# Altium footprint library T5_Turn_Down_For_Watt.PcbLib: 38 footprints (part 1 of 3)
Each footprint in its own frame and in the unit in brackets; x right, y up, seen from the top. Pads: shape width x height; smd on the part's side, far side on the other; paste and mask are expansions set on the pad; w line width, h text height; cw(c..) or ccw(c..) is an arc to the next point about the centre after c.
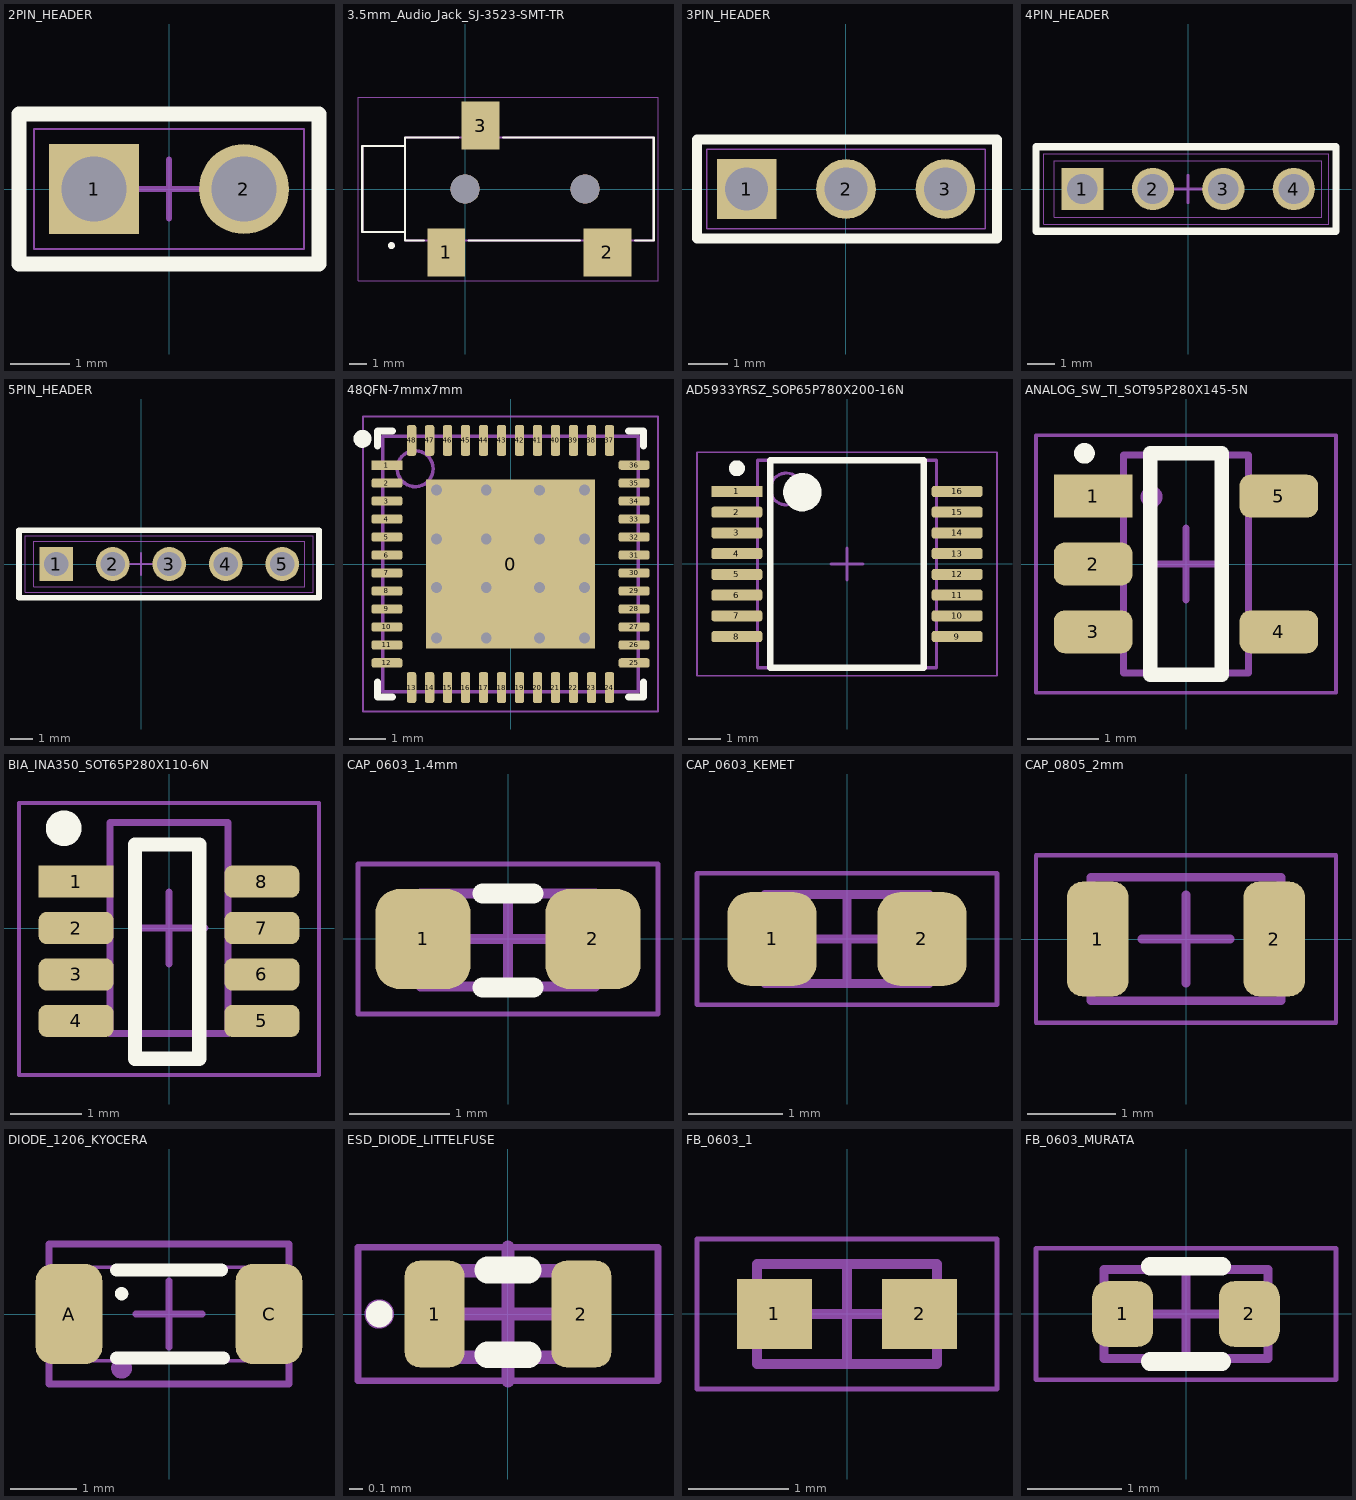
[diagram p0: the footprints below, top view; thin cyan lines are the x and y axes]

## 2PIN_HEADER [mil]
pads (2):
  rect 60x60 hole 43.31 mask+4: 1(-50,0)
  round 60 hole 43.31: 2(50,0)
Top Overlay:
  lines w10: -100,-50 -100,0 -100,50 0,50 100,50 100,-50 0,-50 -100,-50
Mechanical 13:
  lines w1.5: -90,-40 -90,40 90,40 90,-40 -90,-40
  text ".Designator" at -83,-23 h30
Mechanical 15:
  lines w1.5: -100,-50 -100,50 100,50 100,-50 -100,-50
  lines w3.94: -19.68,0 19.69,0 ; 0,-19.69 0,19.68
3D body "Header, Male, 2.54mm, 1x2.STEP": height 336.22, standoff -118.11, extent -100,-49.99 100,50.01

## 3.5mm_Audio_Jack_SJ-3523-SMT-TR [mm] "3.50mm (0.141\", 1/8\", Mini Plug) - Headphone Phone Jack Stereo (3 Conductor, TRS) Connector Solder"
pads (5):
  rect 2.2x2.8 smd mask+0.076: 1(-1.1,-3.7) 3(0.9,3.7)
  rect 2.8x2.8 smd mask+0.076: 2(8.3,-3.7)
  round 1.7 hole 1.7 unplated mask+0.076: ""(0,0) ""(7,0)
Top Overlay:
  circle w0.2: c-4.3,-3.3 r0.1
  lines w0.127: -2.4,-3 -3.5,-3 -3.5,-2.5 ; -0.4,3 -3.5,3 -3.5,2.5 ; 0.2,-3 6.7,-3 ; 2.2,3 11,3 11,-3 9.9,-3 ; -3.5,-2.5 -6,-2.5 -6,2.5 -3.5,2.5 ; -3.5,-2.5 -3.5,2.5
Mechanical 13:
  circle w0.2: c-4.3,-3.3 r0.1
  lines w0.127: -3.5,-2.5 -6,-2.5 -6,2.5 -3.5,2.5 ; -3.5,-3 11,-3 11,3 -3.5,3 -3.5,-3
  text ".Designator" at -3.246,-2.238 h1.52
Mechanical 15:
  lines w0.05: -6.25,-5.35 -6.25,-2.75 -6.25,2.75 -6.25,5.35 11.25,5.35 11.25,-5.35 -6.25,-5.35
3D body "CUI_DEVICES_SJ-3523-SMT-TR.step": height 5.08, standoff -0.72, extent -5.985,-4.53 11.015,4.47

## 3PIN_HEADER [mil]
pads (3):
  rect 60x60 hole 43.31 mask+4: 1(-99.99,0.37)
  round 60 hole 43.31: 2(0.01,0.37) 3(100.01,0.37)
Top Overlay:
  lines w10: -149.99,-49.63 -149.99,0.37 -149.99,50.37 -49.99,50.37 152.01,50.37 152.01,-49.63 -49.99,-49.63 -149.99,-49.63
Mechanical 13:
  lines w1.5: -139.99,-39.63 -139.99,40.37 140.01,40.37 140.01,-39.63 -139.99,-39.63
  text ".Designator" at -132.99,-22.64 h30
Mechanical 15:
  lines w1.5: -149.99,-49.63 -149.99,50.37 152.01,50.37 152.01,-49.63 -149.99,-49.63
  lines w3.94: -19.67,0.05 19.7,0.05 ; 0.01,-19.63 0.01,19.74

## 4PIN_HEADER [mil]
pads (4):
  rect 60x60 hole 43.31 mask+4: 1(-150,0)
  round 60 hole 43.31: 2(-50,0) 3(50,0) 4(150,0)
Top Overlay:
  lines w10: -216,-60 -110,-60 210,-60 210,60 -90,60 -216,60 -216,-16 -216,-60
Mechanical 13:
  lines w1.5: -190,-40 190,-40 190,40 -190,40 -190,-40
  text ".Designator" at -183,-23 h30
Mechanical 15:
  lines w1.5: -205,-50 200,-50 200,50 -205,50 -205,-50
  lines w3.94: -19.68,0 19.69,0 ; 0,-19.69 0,19.68
3D body "TSW-104-07-G-S.stp": height 330.39, standoff -99.61, extent -205,-50 200,50

## 5PIN_HEADER [mil]
pads (5):
  rect 60x60 hole 43.31 mask+4: 1(-150,0)
  round 60 hole 43.31: 2(-50,0) 3(50,0) 4(150,0) 5(250,0)
Top Overlay:
  lines w10: -216,-60 -110,-60 315,-60 315,60 -90,60 -216,60 -216,-16 -216,-60
Mechanical 13:
  lines w1.5: -190,-40 290,-40 290,40 -190,40 -190,-40
  text ".Designator" at -183,-23 h30
Mechanical 15:
  lines w1.5: -205,-50 305,-50 305,50 -205,50 -205,-50
  lines w3.94: -19.68,0 19.69,0 ; 0,-19.69 0,19.68
3D body "MTMM-101-06-S-S-200.stp": height 259, standoff -138, extent -189.37,-39.35 -110.63,39.35
3D body "MTMM-101-06-S-S-200.stp": height 259, standoff -138, extent -89.37,-39.35 -10.63,39.35
3D body "MTMM-101-06-S-S-200.stp": height 259, standoff -138, extent 10.63,-39.35 89.37,39.35
3D body "MTMM-101-06-S-S-200.stp": height 259, standoff -138, extent 110.63,-39.35 189.37,39.35
3D body "MTMM-101-06-S-S-200.stp": height 259, standoff -138, extent 210.63,-39.35 289.37,39.35

## 48QFN-7mmx7mm [mm] "QFN, 48-Leads, Body 7.00x7.00mm, Pitch 0.50mm, Thermal Pad 4.70x4.70mm, IPC Medium Density"
height 0.9
pads (49):
  rect 4.7x4.7 smd paste-100 mask+0.076: 0(0,0)
  rect 0.86x0.26 smd mask+0.076: 1(-3.435,2.75)
  rrect50% 0.86x0.26 smd mask+0.076: 2(-3.435,2.25) 3(-3.435,1.75) 4(-3.435,1.25) 5(-3.435,0.75) 6(-3.435,0.25) 7(-3.435,-0.25) 8(-3.435,-0.75) 9(-3.435,-1.25) 10(-3.435,-1.75) 11(-3.435,-2.25) 12(-3.435,-2.75) 25(3.435,-2.75) 26(3.435,-2.25) 27(3.435,-1.75) 28(3.435,-1.25) 29(3.435,-0.75) 30(3.435,-0.25) 31(3.435,0.25) 32(3.435,0.75) 33(3.435,1.25) 34(3.435,1.75) 35(3.435,2.25) 36(3.435,2.75)
  rrect50% 0.26x0.86 smd mask+0.076: 13(-2.75,-3.435) 14(-2.25,-3.435) 15(-1.75,-3.435) 16(-1.25,-3.435) 17(-0.75,-3.435) 18(-0.25,-3.435) 19(0.25,-3.435) 20(0.75,-3.435) 21(1.25,-3.435) 22(1.75,-3.435) 23(2.25,-3.435) 24(2.75,-3.435) 37(2.75,3.435) 38(2.25,3.435) 39(1.75,3.435) 40(1.25,3.435) 41(0.75,3.435) 42(0.25,3.435) 43(-0.25,3.435) 44(-0.75,3.435) 45(-1.25,3.435) 46(-1.75,3.435) 47(-2.25,3.435) 48(-2.75,3.435)
via 2.06,-0.65 diameter 0.559 hole 0.305
via -2.06,2.06 diameter 0.559 hole 0.305
via 2.06,2.06 diameter 0.559 hole 0.305
via 0.8,2.05 diameter 0.559 hole 0.305
via -0.675,2.06 diameter 0.559 hole 0.305
via 2.06,0.7 diameter 0.559 hole 0.305
via 2.06,-2.06 diameter 0.559 hole 0.305
via -2.06,-0.65 diameter 0.559 hole 0.305
via -2.06,-2.06 diameter 0.559 hole 0.305
via -0.675,-0.65 diameter 0.559 hole 0.305
via 0.8,-0.65 diameter 0.559 hole 0.305
via -0.675,-2.06 diameter 0.559 hole 0.305
via 0.8,-2.06 diameter 0.559 hole 0.305
via 0.8,0.7 diameter 0.559 hole 0.305
via -2.06,0.7 diameter 0.559 hole 0.305
via -0.675,0.7 diameter 0.559 hole 0.305
Top Overlay:
  circle w0.25: c-4.115,3.48 r0.125
  lines w0.2: -3.7,-3.28 -3.7,-3.7 -3.28,-3.7 ; -3.7,3.28 -3.7,3.7 -3.28,3.7 ; 3.28,-3.7 3.7,-3.7 3.7,-3.28 ; 3.28,3.7 3.7,3.7 3.7,3.28
Top Paste:
  rectangle: 0.914,-1.829 1.956,-0.889
  rectangle: -0.559,-1.829 0.686,-0.889
  rectangle: -1.93,-1.829 -0.813,-0.889
  rectangle: -0.559,-0.406 0.686,0.457
  rectangle: -1.956,-0.406 -0.787,0.457
  rectangle: -1.956,0.94 -0.787,1.803
  rectangle: -0.533,0.94 0.66,1.829
  rectangle: 0.914,0.94 1.956,1.803
  rectangle: 0.914,-0.406 1.956,0.457
Mechanical 13:
  circle w0.1: c-2.65,2.65 r0.5
  lines w0.1: -3.55,-3.55 -3.55,3.55 3.55,3.55 3.55,-3.55 -3.55,-3.55
  text ".Designator" at -3.55,-3.55 h1
Mechanical 15:
  lines w0.05: -4.1,-4.1 -4.1,4.1 4.1,4.1 4.1,-4.1 -4.1,-4.1
  lines w0.1: -0.5,0 0.5,0 ; 0,-0.5 0,0.5
3D body: height 0.9, standoff 0, extent -3.55,-3.55 3.55,3.55

## AD5933YRSZ_SOP65P780X200-16N [mm] "SOP, 16-Leads, Body 6.20x5.30mm, Pitch 0.65mm, IPC Medium Density"
height 2
pads (16):
  rect 1.6x0.35 smd mask+0.07: 1(-3.45,2.275)
  rrect50% 1.6x0.35 smd paste+0 mask+0.07: 2(-3.45,1.625) 3(-3.45,0.975) 4(-3.45,0.325) 5(-3.45,-0.325) 6(-3.45,-0.975) 7(-3.45,-1.625) 8(-3.45,-2.275) 9(3.45,-2.275) 10(3.45,-1.625) 11(3.45,-0.975) 12(3.45,-0.325) 13(3.45,0.325) 14(3.45,0.975) 15(3.45,1.625) 16(3.45,2.275)
Top Overlay:
  circle w0.6: c-1.4,2.25 r0.3
  circle w0.25: c-3.45,3 r0.125
  lines w0.2: -2.4,-3.25 2.4,-3.25 2.4,3.25 -2.4,3.25 -2.4,-3.25
Mechanical 13:
  lines w0.05: -4.7,-3.5 4.7,-3.5 4.7,3.5 -4.7,3.5 -4.7,-3.5
  lines w0.1: -0.5,0 0.5,0 ; 0,-0.5 0,0.5
  text ".Designator" at -2.337,-3.274 h1
Mechanical 15:
  circle w0.1: c-1.9,2.35 r0.5
  lines w0.1: -2.8,-3.25 2.8,-3.25 2.8,3.25 -2.8,3.25 -2.8,-3.25
3D body "AD5933YRSZ_SOP65P780X200-16N.step": height 2, standoff 0, extent -3.9,-3.25 3.9,3.25

## ANALOG_SW_TI_SOT95P280X145-5N [mm] "SOT23, 5-Leads, Body 2.90x2.80mm, Pitch 0.95mm, IPC Medium Density"
height 1.45
pads (5):
  rect 1.1x0.6 smd mask+0.07: 1(-1.3,0.95)
  rrect50% 1.1x0.6 smd mask+0.07: 2(-1.3,0) 3(-1.3,-0.95) 4(1.3,-0.95) 5(1.3,0.95)
Top Overlay:
  circle w0.15: c-1.422,1.549 r0.07
  lines w0.2: -0.5,-1.55 0.5,-1.55 0.5,1.55 -0.5,1.55 -0.5,-1.55
Mechanical 13:
  circle w0.254: c-0.483,0.94 r0.025
  lines w0.1: -0.875,-1.525 -0.875,1.525 0.875,1.525 0.875,-1.525 -0.875,-1.525
  text ".Designator" at -0.725,-1.042 h1
Mechanical 15:
  lines w0.05: -2.1,-1.8 -2.1,1.8 2.1,1.8 2.1,-1.8 -2.1,-1.8
  lines w0.1: -0.5,0 0.5,0 ; 0,-0.5 0,0.5
3D body "ANALOG_SW_TI_SOT95P280X145-5N.step": height 1.45, standoff 0, extent -1.5,-1.525 1.5,1.525

## BIA_INA350_SOT65P280X110-6N [mm] "SOT23, 6-Leads, Body 2.90x2.80mm, Pitch 0.65mm, IPC Medium Density"
height 1.1
pads (8):
  rect 1.05x0.45 smd mask+0.07: 1(-1.3,0.65)
  rrect50% 1.05x0.45 smd mask+0.07: 2(-1.3,0) 3(-1.3,-0.65) 4(-1.3,-1.3) 5(1.3,-1.3) 6(1.3,-0.65) 7(1.3,0) 8(1.3,0.65)
Top Overlay:
  circle w0.25: c-1.473,1.397 r0.125
  lines w0.2: -0.475,-1.83 -0.475,1.17 0.425,1.17 0.425,-1.83 -0.475,-1.83
Mechanical 13:
  lines w0.05: -2.1,-2.057 2.1,-2.057 2.1,1.75 -2.1,1.75 -2.1,-2.057
  lines w0.1: -0.5,0 0.5,0 ; 0,-0.5 0,0.5
  text ".Designator" at -1.95,-1.574 h1
Mechanical 15:
  lines w0.1: -0.825,-1.475 0.825,-1.475 0.825,1.475 -0.825,1.475 -0.825,-1.475
3D body "BIA_INA350_SOT65P280X110-6N.step": height 1.1, standoff 0, extent -1.475,-1.475 1.475,1.475

## CAP_0603_1.4mm [mm]
height 0.87
pads (2):
  rrect50% 0.95x1 smd mask+0.07: 1(-0.85,0) 2(0.85,0)
Top Overlay:
  lines w0.2: -0.254,-0.483 0.254,-0.483 ; -0.254,0.457 0.254,0.457
Mechanical 13:
  lines w0.1: -0.875,-0.475 0.875,-0.475 0.875,0.457 -0.875,0.457 -0.875,-0.475
  text ".Designator" at -0.764,-0.455 h0.7
Mechanical 15:
  lines w0.05: -1.5,-0.75 1.5,-0.75 1.5,0.75 -1.5,0.75 -1.5,-0.75
  lines w0.1: -0.475,0 0.475,0 ; 0,-0.475 0,0.475
3D body "CAP_0603_1.4mm.step": height 0.87, standoff 0, extent -0.875,-0.475 0.875,0.475

## CAP_0603_KEMET [mm] "Chip Capacitor, 2-Leads, Body 1.60x0.80mm, IPC Medium Density"
height 0.87
pads (2):
  rrect50% 0.95x1 smd mask+0.07: 1(-0.8,0) 2(0.8,0)
Mechanical 13:
  lines w0.1: -0.875,-0.475 -0.875,0.475 0.875,0.475 0.875,-0.475 -0.875,-0.475
  text ".Designator" at -0.725,-0.092 h0.7
Mechanical 15:
  lines w0.05: -1.6,-0.7 -1.6,0.7 1.6,0.7 1.6,-0.7 -1.6,-0.7
  lines w0.1: -0.475,0 0.475,0 ; 0,-0.475 0,0.475
3D body "CAP_0603_KEMET.step": height 0.87, standoff 0, extent -0.875,-0.475 0.875,0.475

## CAP_0805_2mm [mm] "Chip Capacitor, 2-Leads, Body 2.00x1.25mm, IPC Medium Density"
height 1.4
pads (2):
  rrect50% 0.7x1.3 smd mask+0.102: 1(-1,0) 2(1,0)
Mechanical 13:
  lines w0.1: -1.075,-0.7 1.075,-0.7 1.075,0.7 -1.075,0.7 -1.075,-0.7
  text ".Designator" at -0.955,-0.38 h0.6
Mechanical 15:
  lines w0.05: -1.7,-0.95 1.7,-0.95 1.7,0.95 -1.7,0.95 -1.7,-0.95
  lines w0.1: -0.5,0 0.5,0 ; 0,-0.5 0,0.5
3D body "GRM21BR61E106KA73K.STEP": height 1.24, standoff -0.01, extent -1,-0.7 1,0.7

## DIODE_1206_KYOCERA [mm] "Chip Diode, 2-Leads, Body 3.40x1.90mm, IPC Medium Density"
height 0.98
pads (2):
  rrect50% 1x1.5 smd mask+0.07: A(-1.5,0) C(1.5,0)
Top Overlay:
  circle w0.1: c-0.711,0.305 r0.05
  lines w0.2: -0.787,-0.66 0.813,-0.66 ; -0.787,0.66 0.787,0.66
Mechanical 13:
  circle w0.2: c-0.711,-0.813 r0.057
  lines w0.1: -1.8,-1.05 -1.8,1.05 1.8,1.05 1.8,-1.05 -1.8,-1.05
  text ".Designator" at -1.65,-0.633 h0.8
Mechanical 15:
  lines w0.05: -1.6,-0.7 -1.6,0.7 1.6,0.7 1.6,-0.7 -1.6,-0.7
  lines w0.1: -0.5,0 0.5,0 ; 0,-0.5 0,0.5
3D body "DIODE_1206_KYOCERA.step": height 0.98, standoff 0, extent -1.8,-1.05 1.8,1.05

## ESD_DIODE_LITTELFUSE [mm] "SODFL, 2-Leads, Body 0.60x1.40mm, IPC Medium Density"
height 0.65
pads (2):
  rrect50% 0.45x0.8 smd mask+0.07: 1(-0.55,0) 2(0.55,0)
Top Overlay:
  circle w0.1: c-0.965,0 r0.05
  lines w0.2: -0.152,-0.305 0.152,-0.305 ; -0.152,0.33 0.152,0.33
Mechanical 13:
  lines w0.1: -0.55,-0.325 0.55,-0.325 0.55,0.325 -0.55,0.325 -0.55,-0.325
  lines w0.12: -0.915,0 cw(c-0.965,0) -0.916,0.006
  text ".Designator" at -0.43,-0.038 h0.5
Mechanical 15:
  lines w0.05: -1.125,-0.5 1.125,-0.5 1.125,0.5 -1.125,0.5 -1.125,-0.5
  lines w0.1: -0.5,0 0.5,0 ; 0,-0.5 0,0.5
3D body "ESD_DIODE_LITTELFUSE.step": height 0.65, standoff 0, extent -0.7,-0.325 0.7,0.325

## FB_0603_1 [mm]
height 1
pads (2):
  rect 0.75x0.7 smd: 1(-0.725,0) 2(0.725,0)
Mechanical 13:
  lines w0.1: -0.9,-0.5 0.9,-0.5 0.9,0.5 -0.9,0.5 -0.9,-0.5
Mechanical 15:
  lines w0.05: -1.5,-0.75 1.5,-0.75 1.5,0.75 -1.5,0.75 -1.5,-0.75
  lines w0.1: -0.5,0 0.5,0 ; 0,-0.5 0,0.5
3D body "FB_0603_1.step": height 1, standoff 0, extent -0.9,-0.5 0.9,0.5

## FB_0603_MURATA [mm] "Chip Inductor, 2-Leads, Body 1.60x0.80mm, IPC Medium Density"
height 0.95
pads (2):
  rrect50% 0.65x0.7 smd mask+0.07: 1(-0.675,0) 2(0.675,0)
Top Overlay:
  lines w0.2: -0.381,-0.508 0.381,-0.508 ; -0.381,0.508 0.381,0.508
Mechanical 13:
  lines w0.1: -0.875,-0.475 0.875,-0.475 0.875,0.475 -0.875,0.475 -0.875,-0.475
  text ".Designator" at -0.725,-0.092 h0.7
Mechanical 15:
  lines w0.05: -1.6,-0.7 1.6,-0.7 1.6,0.7 -1.6,0.7 -1.6,-0.7
  lines w0.1: -0.475,0 0.475,0 ; 0,-0.475 0,0.475
3D body "FB_0603_MURATA.step": height 0.95, standoff 0, extent -0.875,-0.475 0.875,0.475